# Altium schematic symbol library 5105NV015.Schlib: 1 symbol
Pins are listed as number, name and electrical type; pins without a type are passive.

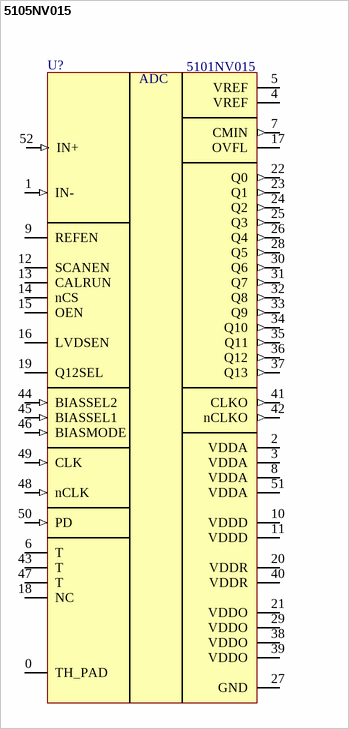
[diagram p0: symbol 5105NV015]

## 5105NV015
designator U?, comment 5101NV015
Назначение: АЦП; Наименование: 5105НВ015
pins: 0 TH_PAD (oc), 1 IN- (in), 2 VDDA (power), 3 VDDA (power), 4 VREF, 5 VREF, 6 T, 7 CMIN (out), 8 VDDA (power), 9 REFEN, 10 VDDD (power), 11 VDDD (power), 12 SCANEN (power), 13 CALRUN (power), 14 nCS (power), 15 OEN (power), 16 LVDSEN (power), 17 OVFL (power), 18 NC (power), 19 Q12SEL (power), 20 VDDR (power), 21 VDDO (power), 22 Q0 (out), 23 Q1 (out), 24 Q2 (out), 25 Q3 (out), 26 Q4 (out), 27 GND, 28 Q5 (out), 29 VDDO (power), 30 Q6 (out), 31 Q7 (out), 32 Q8 (out), 33 Q9 (out), 34 Q10 (out), 35 Q11 (out), 36 Q12 (out), 37 Q13 (out), 38 VDDO (power), 39 VDDO (power), 40 VDDR (power), 41 CLKO (out), 42 nCLKO (out), 43 T, 44 BIASSEL2 (in), 45 BIASSEL1 (in), 46 BIASMODE (in), 47 T, 48 nCLK (in), 49 CLK (in), 50 PD (in), 51 VDDA (power), 52 IN+ (in)
text: ADC